# Altium schematic symbol library ADS1115IDGSR.Schlib: 1 symbol
Pins are listed as number, name and electrical type; pins without a type are passive.

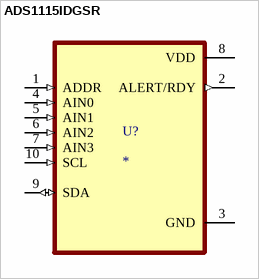
[diagram p0: symbol ADS1115IDGSR]

## ADS1115IDGSR
designator U?
16 860 2,4 Differential, Single Ended VSSOP-10 Analog To Digital Converters (ADCs) RoHS; MP: ADS1115IDGSR; MF: {'manufacturer': u'Texas Instruments'}; LCSC Part #: C37593; JLCPCB Part Type: Extended; ComponentLink1Description: LCSC - Texas Instruments ADS1115IDGSR; ComponentLink1URL: https://lcsc.com/product-detail/Analog-To-Digital-Converters-ADCs_TI_ADS1115IDGSR_ADS1115IDGSR_C37593.html/?href=jlc-SMT
footprint SOP50P490X110-10N (Footprint not found)
pins: 1 ADDR (in), 2 ALERT/RDY (out), 3 GND (power), 4 AIN0 (in), 5 AIN1 (in), 6 AIN2 (in), 7 AIN3 (in), 8 VDD (power), 9 SDA (io), 10 SCL (in)